# Altium footprint library Connector_JST.PcbLib: 558 footprints (part 3 of 35)
Each footprint in its own frame and in the unit in brackets; x right, y up, seen from the top. Pads: shape width x height; smd on the part's side, far side on the other; paste and mask are expansions set on the pad; w line width, h text height; cw(c..) or ccw(c..) is an arc to the next point about the centre after c.
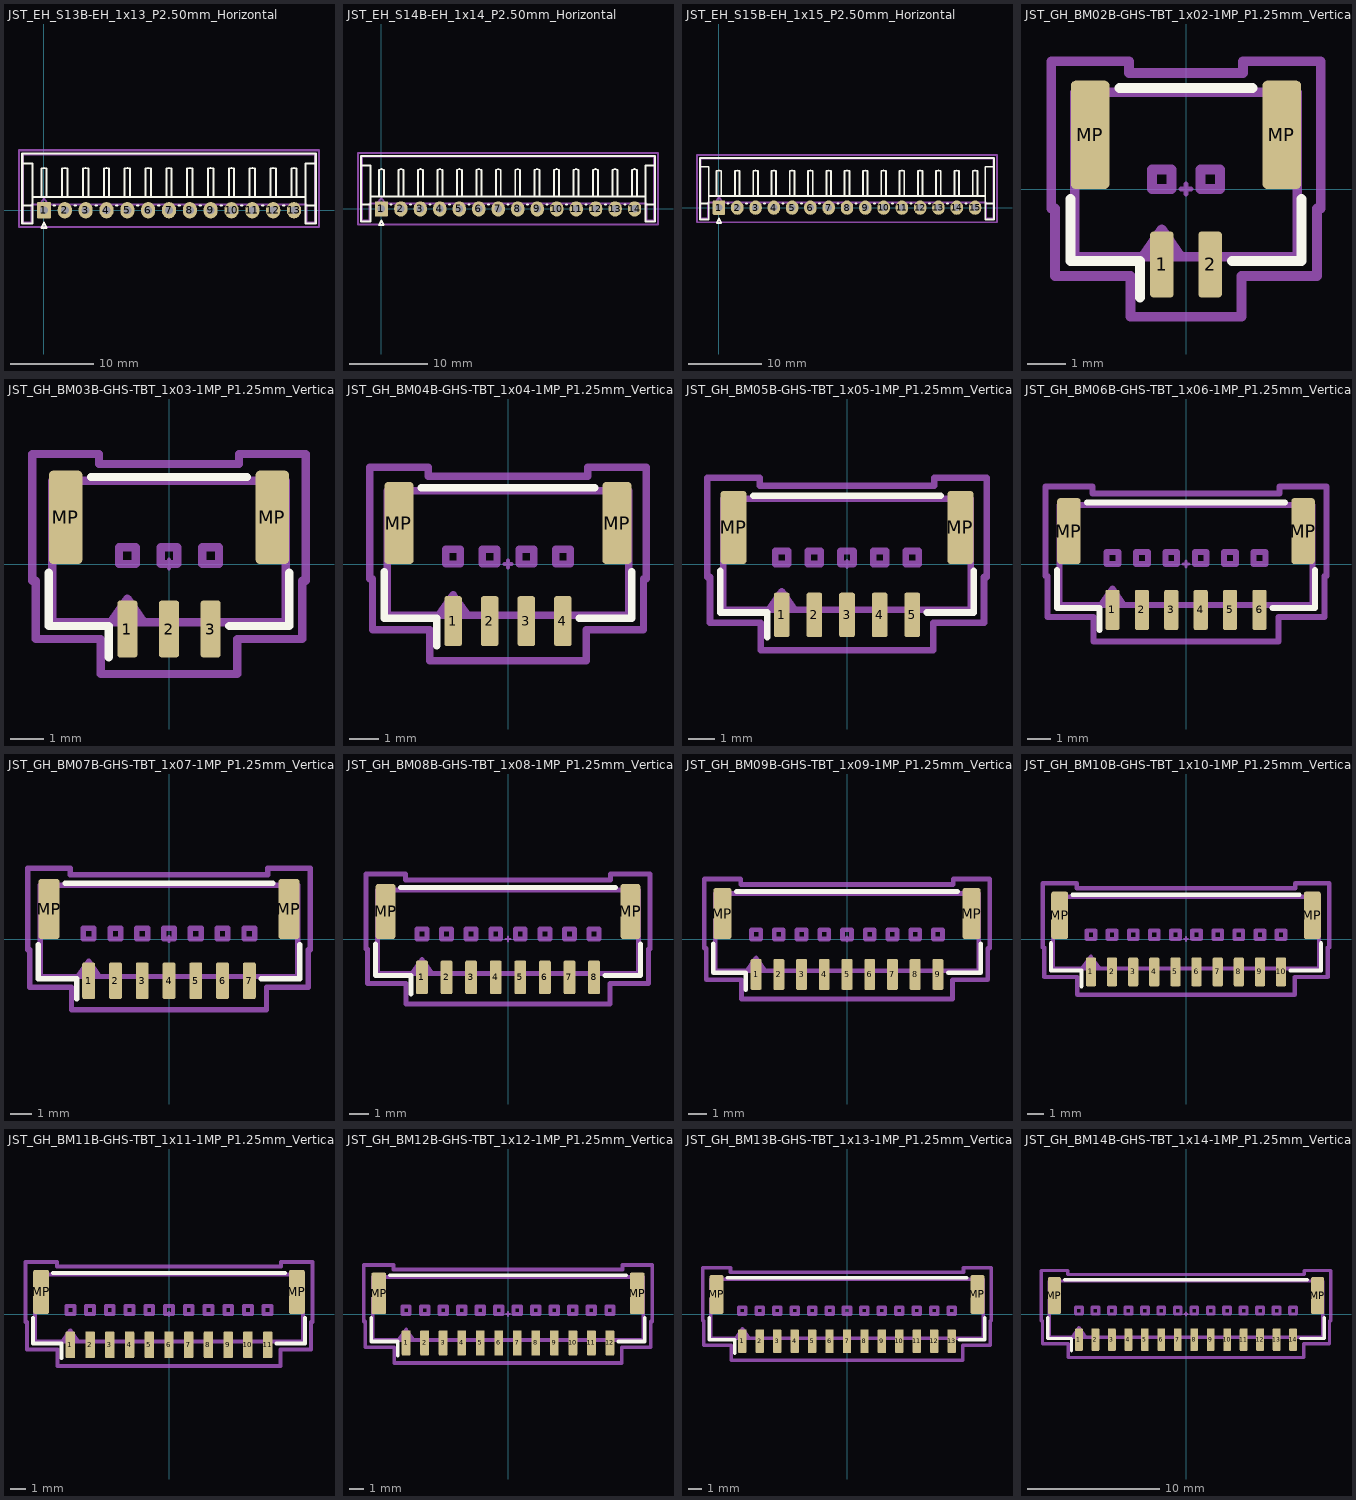
[diagram p2: the footprints below, top view; thin cyan lines are the x and y axes]

## JST_EH_S13B-EH_1x13_P2.50mm_Horizontal [mm] "JST_EH_S13B-EH_1x13_P2.50mm_Horizontal"
pads (13):
  rrect15% 1.7x1.95 hole 0.95: 1(0,0)
  rrect100% 1.7x1.95 hole 0.95: 2(2.5,0) 3(5,0) 4(7.5,0) 5(10,0) 6(12.5,0) 7(15,0) 8(17.5,0) 9(20,0) 10(22.5,0) 11(25,0) 12(27.5,0) 13(30,0)
F.SilkS:
  lines w0.254: -2.61,0.59 -1.39,0.59 ; -2.61,5.59 -1.39,5.59 -1.39,0.59 ; -1.39,1.59 31.39,1.59 ; 1.17,0.59 1.33,0.59 ; 3.67,0.59 3.83,0.59 ; 6.17,0.59 6.33,0.59 ; 8.67,0.59 8.83,0.59 ; 11.17,0.59 11.33,0.59 ; 13.67,0.59 13.83,0.59 ; 16.17,0.59 16.33,0.59 ; 18.67,0.59 18.83,0.59 ; 21.17,0.59 21.33,0.59 ; 23.67,0.59 23.83,0.59 ; 26.17,0.59 26.33,0.59 ; 28.67,0.59 28.83,0.59 ; 32.61,0.59 31.39,0.59 ; 32.61,5.59 31.39,5.59 31.39,0.59 ; -1.39,0.59 -1.39,-1.61 -2.61,-1.61 -2.61,6.81 32.61,6.81 32.61,-1.61 31.39,-1.61 31.39,0.59 ; -0.32,1.59 -0.32,5.01 0,5.09 0.32,5.01 0.32,1.59 0,1.59 -0.32,1.59 ; -0.3,-2.1 0.3,-2.1 0,-1.5 -0.3,-2.1 ; 2.18,1.59 2.18,5.01 2.5,5.09 2.82,5.01 2.82,1.59 2.5,1.59 2.18,1.59 ; 4.68,1.59 4.68,5.01 5,5.09 5.32,5.01 5.32,1.59 5,1.59 4.68,1.59 ; 7.18,1.59 7.18,5.01 7.5,5.09 7.82,5.01 7.82,1.59 7.5,1.59 7.18,1.59 ; 9.68,1.59 9.68,5.01 10,5.09 10.32,5.01 10.32,1.59 10,1.59 9.68,1.59 ; 12.18,1.59 12.18,5.01 12.5,5.09 12.82,5.01 12.82,1.59 12.5,1.59 12.18,1.59 ; 14.68,1.59 14.68,5.01 15,5.09 15.32,5.01 15.32,1.59 15,1.59 14.68,1.59 ; 17.18,1.59 17.18,5.01 17.5,5.09 17.82,5.01 17.82,1.59 17.5,1.59 17.18,1.59 ; 19.68,1.59 19.68,5.01 20,5.09 20.32,5.01 20.32,1.59 20,1.59 19.68,1.59 ; 22.18,1.59 22.18,5.01 22.5,5.09 22.82,5.01 22.82,1.59 22.5,1.59 22.18,1.59 ; 24.68,1.59 24.68,5.01 25,5.09 25.32,5.01 25.32,1.59 25,1.59 24.68,1.59 ; 27.18,1.59 27.18,5.01 27.5,5.09 27.82,5.01 27.82,1.59 27.5,1.59 27.18,1.59 ; 29.68,1.59 29.68,5.01 30,5.09 30.32,5.01 30.32,1.59 30,1.59 29.68,1.59
Top Component Center:
  lines w0.127: -0.127,0 0.127,0 ; 0,-0.127 0,0.127
Top Assembly:
  lines w0.254: -0.5,0.7 0,1.407 0.5,0.7 ; -2.5,-1.5 -2.5,6.7 32.5,6.7 32.5,-1.5 31.5,-1.5 31.5,0.7 -1.5,0.7 -1.5,-1.5 -2.5,-1.5
Top Courtyard:
  lines w0.254: -3,-2 -3,7.2 33,7.2 33,-2 -3,-2
Top Designator:
  text ".Designator" at 11.302,5.498 h1.52
3D body "JST_EH_S13B-EH_1x13_P2.50mm_Horizontal.step": height 4.2, standoff -3.2, extent -2.5,-1.5 32.5,6.7

## JST_EH_S14B-EH_1x14_P2.50mm_Horizontal [mm] "JST_EH_S14B-EH_1x14_P2.50mm_Horizontal"
pads (14):
  rrect15% 1.7x1.95 hole 0.95: 1(0,0)
  rrect100% 1.7x1.95 hole 0.95: 2(2.5,0) 3(5,0) 4(7.5,0) 5(10,0) 6(12.5,0) 7(15,0) 8(17.5,0) 9(20,0) 10(22.5,0) 11(25,0) 12(27.5,0) 13(30,0) 14(32.5,0)
F.SilkS:
  lines w0.254: -2.61,0.59 -1.39,0.59 ; -2.61,5.59 -1.39,5.59 -1.39,0.59 ; -1.39,1.59 33.89,1.59 ; 1.17,0.59 1.33,0.59 ; 3.67,0.59 3.83,0.59 ; 6.17,0.59 6.33,0.59 ; 8.67,0.59 8.83,0.59 ; 11.17,0.59 11.33,0.59 ; 13.67,0.59 13.83,0.59 ; 16.17,0.59 16.33,0.59 ; 18.67,0.59 18.83,0.59 ; 21.17,0.59 21.33,0.59 ; 23.67,0.59 23.83,0.59 ; 26.17,0.59 26.33,0.59 ; 28.67,0.59 28.83,0.59 ; 31.17,0.59 31.33,0.59 ; 35.11,0.59 33.89,0.59 ; 35.11,5.59 33.89,5.59 33.89,0.59 ; -1.39,0.59 -1.39,-1.61 -2.61,-1.61 -2.61,6.81 35.11,6.81 35.11,-1.61 33.89,-1.61 33.89,0.59 ; -0.32,1.59 0,1.59 0.32,1.59 0.32,5.01 0,5.09 -0.32,5.01 -0.32,1.59 ; -0.3,-2.1 0,-1.5 0.3,-2.1 -0.3,-2.1 ; 2.18,1.59 2.5,1.59 2.82,1.59 2.82,5.01 2.5,5.09 2.18,5.01 2.18,1.59 ; 4.68,1.59 5,1.59 5.32,1.59 5.32,5.01 5,5.09 4.68,5.01 4.68,1.59 ; 7.18,1.59 7.5,1.59 7.82,1.59 7.82,5.01 7.5,5.09 7.18,5.01 7.18,1.59 ; 9.68,1.59 10,1.59 10.32,1.59 10.32,5.01 10,5.09 9.68,5.01 9.68,1.59 ; 12.18,1.59 12.5,1.59 12.82,1.59 12.82,5.01 12.5,5.09 12.18,5.01 12.18,1.59 ; 14.68,1.59 15,1.59 15.32,1.59 15.32,5.01 15,5.09 14.68,5.01 14.68,1.59 ; 17.18,1.59 17.5,1.59 17.82,1.59 17.82,5.01 17.5,5.09 17.18,5.01 17.18,1.59 ; 19.68,1.59 20,1.59 20.32,1.59 20.32,5.01 20,5.09 19.68,5.01 19.68,1.59 ; 22.18,1.59 22.5,1.59 22.82,1.59 22.82,5.01 22.5,5.09 22.18,5.01 22.18,1.59 ; 24.68,1.59 25,1.59 25.32,1.59 25.32,5.01 25,5.09 24.68,5.01 24.68,1.59 ; 27.18,1.59 27.5,1.59 27.82,1.59 27.82,5.01 27.5,5.09 27.18,5.01 27.18,1.59 ; 29.68,1.59 30,1.59 30.32,1.59 30.32,5.01 30,5.09 29.68,5.01 29.68,1.59 ; 32.18,1.59 32.5,1.59 32.82,1.59 32.82,5.01 32.5,5.09 32.18,5.01 32.18,1.59
Top Component Center:
  lines w0.127: -0.127,0 0.127,0 ; 0,-0.127 0,0.127
Top Assembly:
  lines w0.254: -0.5,0.7 0,1.407 0.5,0.7 ; -2.5,-1.5 -1.5,-1.5 -1.5,0.7 34,0.7 34,-1.5 35,-1.5 35,6.7 -2.5,6.7 -2.5,-1.5
Top Courtyard:
  lines w0.254: -3,-2 35.5,-2 35.5,7.2 -3,7.2 -3,-2
Top Designator:
  text ".Designator" at 12.572,5.498 h1.52
3D body "JST_EH_S14B-EH_1x14_P2.50mm_Horizontal.step": height 4.2, standoff -3.2, extent -2.5,-1.5 35,6.7

## JST_EH_S15B-EH_1x15_P2.50mm_Horizontal [mm] "JST_EH_S15B-EH_1x15_P2.50mm_Horizontal"
pads (15):
  rrect15% 1.7x1.95 hole 0.95: 1(0,0)
  rrect100% 1.7x1.95 hole 0.95: 2(2.5,0) 3(5,0) 4(7.5,0) 5(10,0) 6(12.5,0) 7(15,0) 8(17.5,0) 9(20,0) 10(22.5,0) 11(25,0) 12(27.5,0) 13(30,0) 14(32.5,0) 15(35,0)
F.SilkS:
  lines w0.254: -2.61,0.59 -1.39,0.59 ; -2.61,5.59 -1.39,5.59 -1.39,0.59 ; -1.39,1.59 36.39,1.59 ; 1.17,0.59 1.33,0.59 ; 3.67,0.59 3.83,0.59 ; 6.17,0.59 6.33,0.59 ; 8.67,0.59 8.83,0.59 ; 11.17,0.59 11.33,0.59 ; 13.67,0.59 13.83,0.59 ; 16.17,0.59 16.33,0.59 ; 18.67,0.59 18.83,0.59 ; 21.17,0.59 21.33,0.59 ; 23.67,0.59 23.83,0.59 ; 26.17,0.59 26.33,0.59 ; 28.67,0.59 28.83,0.59 ; 31.17,0.59 31.33,0.59 ; 33.67,0.59 33.83,0.59 ; 37.61,0.59 36.39,0.59 ; 37.61,5.59 36.39,5.59 36.39,0.59 ; -1.39,0.59 -1.39,-1.61 -2.61,-1.61 -2.61,6.81 37.61,6.81 37.61,-1.61 36.39,-1.61 36.39,0.59 ; -0.32,1.59 -0.32,5.01 0,5.09 0.32,5.01 0.32,1.59 0,1.59 -0.32,1.59 ; -0.3,-2.1 0.3,-2.1 0,-1.5 -0.3,-2.1 ; 2.18,1.59 2.18,5.01 2.5,5.09 2.82,5.01 2.82,1.59 2.5,1.59 2.18,1.59 ; 4.68,1.59 4.68,5.01 5,5.09 5.32,5.01 5.32,1.59 5,1.59 4.68,1.59 ; 7.18,1.59 7.18,5.01 7.5,5.09 7.82,5.01 7.82,1.59 7.5,1.59 7.18,1.59 ; 9.68,1.59 9.68,5.01 10,5.09 10.32,5.01 10.32,1.59 10,1.59 9.68,1.59 ; 12.18,1.59 12.18,5.01 12.5,5.09 12.82,5.01 12.82,1.59 12.5,1.59 12.18,1.59 ; 14.68,1.59 14.68,5.01 15,5.09 15.32,5.01 15.32,1.59 15,1.59 14.68,1.59 ; 17.18,1.59 17.18,5.01 17.5,5.09 17.82,5.01 17.82,1.59 17.5,1.59 17.18,1.59 ; 19.68,1.59 19.68,5.01 20,5.09 20.32,5.01 20.32,1.59 20,1.59 19.68,1.59 ; 22.18,1.59 22.18,5.01 22.5,5.09 22.82,5.01 22.82,1.59 22.5,1.59 22.18,1.59 ; 24.68,1.59 24.68,5.01 25,5.09 25.32,5.01 25.32,1.59 25,1.59 24.68,1.59 ; 27.18,1.59 27.18,5.01 27.5,5.09 27.82,5.01 27.82,1.59 27.5,1.59 27.18,1.59 ; 29.68,1.59 29.68,5.01 30,5.09 30.32,5.01 30.32,1.59 30,1.59 29.68,1.59 ; 32.18,1.59 32.18,5.01 32.5,5.09 32.82,5.01 32.82,1.59 32.5,1.59 32.18,1.59 ; 34.68,1.59 34.68,5.01 35,5.09 35.32,5.01 35.32,1.59 35,1.59 34.68,1.59
Top Component Center:
  lines w0.127: -0.127,0 0.127,0 ; 0,-0.127 0,0.127
Top Assembly:
  lines w0.254: -0.5,0.7 0,1.407 0.5,0.7 ; -2.5,-1.5 -2.5,6.7 37.5,6.7 37.5,-1.5 36.5,-1.5 36.5,0.7 -1.5,0.7 -1.5,-1.5 -2.5,-1.5
Top Courtyard:
  lines w0.254: -3,-2 -3,7.2 38,7.2 38,-2 -3,-2
Top Designator:
  text ".Designator" at 12.953,5.625 h1.52
3D body "JST_EH_S15B-EH_1x15_P2.50mm_Horizontal.step": height 4.2, standoff -3.2, extent -2.5,-1.5 37.5,6.7

## JST_GH_BM02B-GHS-TBT_1x02-1MP_P1.25mm_Vertical [mm] "JST_GH_BM02B-GHS-TBT_1x02-1MP_P1.25mm_Vertical"
pads (4):
  rrect25% 0.6x1.7 smd: 1(-0.625,-1.95) 2(0.625,-1.95)
  rrect25% 1x2.8 smd: MP(-2.475,1.4) MP(2.475,1.4)
F.SilkS:
  lines w0.254: -2.985,-0.26 -2.985,-1.86 -1.185,-1.86 -1.185,-2.8 ; -1.715,2.61 1.715,2.61 ; 1.185,-1.86 2.985,-1.86 2.985,-0.26
Top Component Center:
  lines w0.127: -0.127,0 0.127,0 ; 0,-0.127 0,0.127
Top Assembly:
  lines w0.254: -1.125,-1.75 -0.625,-1.043 -0.125,-1.75 ; -2.875,-1.75 2.875,-1.75 2.875,2.5 -2.875,2.5 -2.875,-1.75 ; -0.875,0 -0.375,0 -0.375,0.5 -0.875,0.5 -0.875,0 ; 0.375,0 0.375,0.5 0.875,0.5 0.875,0 0.375,0
Top Courtyard:
  lines w0.254: -3.48,-0.5 -3.38,-0.5 -3.38,-2.25 -1.43,-2.25 -1.43,-3.3 1.43,-3.3 1.43,-2.25 3.38,-2.25 3.38,-0.5 3.48,-0.5 3.48,3.3 1.47,3.3 1.47,3 -1.47,3 -1.47,3.3 -3.48,3.3 -3.48,-0.5
Top Designator:
  text ".Designator" at -3.43,-0.979 h1.52
3D body "JST_GH_BM02B-GHS-TBT_1x02-1MP_P1.25mm_Vertical.step": height 4.2, standoff 0, extent -2.875,-2.475 2.875,2.475

## JST_GH_BM03B-GHS-TBT_1x03-1MP_P1.25mm_Vertical [mm] "JST_GH_BM03B-GHS-TBT_1x03-1MP_P1.25mm_Vertical"
pads (5):
  rrect25% 0.6x1.7 smd: 1(-1.25,-1.95) 2(0,-1.95) 3(1.25,-1.95)
  rrect25% 1x2.8 smd: MP(-3.1,1.4) MP(3.1,1.4)
F.SilkS:
  lines w0.254: -3.61,-0.26 -3.61,-1.86 -1.81,-1.86 -1.81,-2.8 ; -2.34,2.61 2.34,2.61 ; 1.81,-1.86 3.61,-1.86 3.61,-0.26
Top Component Center:
  lines w0.127: -0.127,0 0.127,0 ; 0,-0.127 0,0.127
Top Assembly:
  lines w0.254: -1.75,-1.75 -1.25,-1.043 -0.75,-1.75 ; -3.5,-1.75 -3.5,2.5 3.5,2.5 3.5,-1.75 -3.5,-1.75 ; -1.5,0 -1.5,0.5 -1,0.5 -1,0 -1.5,0 ; -0.25,0 -0.25,0.5 0.25,0.5 0.25,0 -0.25,0 ; 1,0 1.5,0 1.5,0.5 1,0.5 1,0
Top Courtyard:
  lines w0.254: -4.1,-0.5 -4.1,3.3 -2.1,3.3 -2.1,3 2.1,3 2.1,3.3 4.1,3.3 4.1,-0.5 4,-0.5 4,-2.25 2.05,-2.25 2.05,-3.3 -2.05,-3.3 -2.05,-2.25 -4,-2.25 -4,-0.5 -4.1,-0.5
Top Designator:
  text ".Designator" at -3.303,-0.852 h1.52
3D body "JST_GH_BM03B-GHS-TBT_1x03-1MP_P1.25mm_Vertical.step": height 4.2, standoff 0, extent -3.5,-2.475 3.5,2.475

## JST_GH_BM04B-GHS-TBT_1x04-1MP_P1.25mm_Vertical [mm] "JST_GH_BM04B-GHS-TBT_1x04-1MP_P1.25mm_Vertical"
pads (6):
  rrect25% 0.6x1.7 smd: 1(-1.875,-1.95) 2(-0.625,-1.95) 3(0.625,-1.95) 4(1.875,-1.95)
  rrect25% 1x2.8 smd: MP(-3.725,1.4) MP(3.725,1.4)
F.SilkS:
  lines w0.254: -4.235,-0.26 -4.235,-1.86 -2.435,-1.86 -2.435,-2.8 ; -2.965,2.61 2.965,2.61 ; 2.435,-1.86 4.235,-1.86 4.235,-0.26
Top Component Center:
  lines w0.127: -0.127,0 0.127,0 ; 0,-0.127 0,0.127
Top Assembly:
  lines w0.254: -2.375,-1.75 -1.875,-1.043 -1.375,-1.75 ; -4.125,-1.75 4.125,-1.75 4.125,2.5 -4.125,2.5 -4.125,-1.75 ; -2.125,0 -1.625,0 -1.625,0.5 -2.125,0.5 -2.125,0 ; -0.875,0 -0.375,0 -0.375,0.5 -0.875,0.5 -0.875,0 ; 0.375,0 0.875,0 0.875,0.5 0.375,0.5 0.375,0 ; 1.625,0 2.125,0 2.125,0.5 1.625,0.5 1.625,0
Top Courtyard:
  lines w0.254: -4.73,-0.5 -4.63,-0.5 -4.63,-2.25 -2.68,-2.25 -2.68,-3.3 2.68,-3.3 2.68,-2.25 4.63,-2.25 4.63,-0.5 4.73,-0.5 4.73,3.3 2.72,3.3 2.72,3 -2.72,3 -2.72,3.3 -4.73,3.3 -4.73,-0.5
Top Designator:
  text ".Designator" at -3.43,-0.344 h1.52
3D body "JST_GH_BM04B-GHS-TBT_1x04-1MP_P1.25mm_Vertical.step": height 4.2, standoff 0, extent -4.125,-2.475 4.125,2.475

## JST_GH_BM05B-GHS-TBT_1x05-1MP_P1.25mm_Vertical [mm] "JST_GH_BM05B-GHS-TBT_1x05-1MP_P1.25mm_Vertical"
pads (7):
  rrect25% 0.6x1.7 smd: 1(-2.5,-1.95) 2(-1.25,-1.95) 3(0,-1.95) 4(1.25,-1.95) 5(2.5,-1.95)
  rrect25% 1x2.8 smd: MP(-4.35,1.4) MP(4.35,1.4)
F.SilkS:
  lines w0.254: -4.86,-0.26 -4.86,-1.86 -3.06,-1.86 -3.06,-2.8 ; -3.59,2.61 3.59,2.61 ; 3.06,-1.86 4.86,-1.86 4.86,-0.26
Top Component Center:
  lines w0.127: -0.127,0 0.127,0 ; 0,-0.127 0,0.127
Top Assembly:
  lines w0.254: -3,-1.75 -2.5,-1.043 -2,-1.75 ; -4.75,-1.75 4.75,-1.75 4.75,2.5 -4.75,2.5 -4.75,-1.75 ; -2.75,0 -2.25,0 -2.25,0.5 -2.75,0.5 -2.75,0 ; -1.5,0 -1,0 -1,0.5 -1.5,0.5 -1.5,0 ; -0.25,0 0.25,0 0.25,0.5 -0.25,0.5 -0.25,0 ; 1,0 1.5,0 1.5,0.5 1,0.5 1,0 ; 2.25,0 2.75,0 2.75,0.5 2.25,0.5 2.25,0
Top Courtyard:
  lines w0.254: -5.35,-0.5 -5.25,-0.5 -5.25,-2.25 -3.3,-2.25 -3.3,-3.3 3.3,-3.3 3.3,-2.25 5.25,-2.25 5.25,-0.5 5.35,-0.5 5.35,3.3 3.34,3.3 3.34,3 -3.34,3 -3.34,3.3 -5.35,3.3 -5.35,-0.5
Top Designator:
  text ".Designator" at -3.43,1.053 h1.52
3D body "JST_GH_BM05B-GHS-TBT_1x05-1MP_P1.25mm_Vertical.step": height 4.2, standoff 0, extent -4.75,-2.475 4.75,2.475

## JST_GH_BM06B-GHS-TBT_1x06-1MP_P1.25mm_Vertical [mm] "JST_GH_BM06B-GHS-TBT_1x06-1MP_P1.25mm_Vertical"
pads (8):
  rrect25% 0.6x1.7 smd: 1(-3.125,-1.95) 2(-1.875,-1.95) 3(-0.625,-1.95) 4(0.625,-1.95) 5(1.875,-1.95) 6(3.125,-1.95)
  rrect25% 1x2.8 smd: MP(-4.975,1.4) MP(4.975,1.4)
F.SilkS:
  lines w0.254: -5.485,-0.26 -5.485,-1.86 -3.685,-1.86 -3.685,-2.8 ; -4.215,2.61 4.215,2.61 ; 3.685,-1.86 5.485,-1.86 5.485,-0.26
Top Component Center:
  lines w0.127: -0.127,0 0.127,0 ; 0,-0.127 0,0.127
Top Assembly:
  lines w0.254: -3.625,-1.75 -3.125,-1.043 -2.625,-1.75 ; -5.375,-1.75 5.375,-1.75 5.375,2.5 -5.375,2.5 -5.375,-1.75 ; -3.375,0 -2.875,0 -2.875,0.5 -3.375,0.5 -3.375,0 ; -2.125,0 -1.625,0 -1.625,0.5 -2.125,0.5 -2.125,0 ; -0.875,0 -0.375,0 -0.375,0.5 -0.875,0.5 -0.875,0 ; 0.375,0 0.875,0 0.875,0.5 0.375,0.5 0.375,0 ; 1.625,0 2.125,0 2.125,0.5 1.625,0.5 1.625,0 ; 2.875,0 3.375,0 3.375,0.5 2.875,0.5 2.875,0
Top Courtyard:
  lines w0.254: -5.98,-0.5 -5.88,-0.5 -5.88,-2.25 -3.93,-2.25 -3.93,-3.3 3.93,-3.3 3.93,-2.25 5.88,-2.25 5.88,-0.5 5.98,-0.5 5.98,3.3 3.97,3.3 3.97,3 -3.97,3 -3.97,3.3 -5.98,3.3 -5.98,-0.5
Top Designator:
  text ".Designator" at -3.303,1.18 h1.52
3D body "JST_GH_BM06B-GHS-TBT_1x06-1MP_P1.25mm_Vertical.step": height 4.2, standoff 0, extent -5.375,-2.475 5.375,2.475

## JST_GH_BM07B-GHS-TBT_1x07-1MP_P1.25mm_Vertical [mm] "JST_GH_BM07B-GHS-TBT_1x07-1MP_P1.25mm_Vertical"
pads (9):
  rrect25% 0.6x1.7 smd: 1(-3.75,-1.95) 2(-2.5,-1.95) 3(-1.25,-1.95) 4(0,-1.95) 5(1.25,-1.95) 6(2.5,-1.95) 7(3.75,-1.95)
  rrect25% 1x2.8 smd: MP(-5.6,1.4) MP(5.6,1.4)
F.SilkS:
  lines w0.254: -6.11,-0.26 -6.11,-1.86 -4.31,-1.86 -4.31,-2.8 ; -4.84,2.61 4.84,2.61 ; 4.31,-1.86 6.11,-1.86 6.11,-0.26
Top Component Center:
  lines w0.127: -0.127,0 0.127,0 ; 0,-0.127 0,0.127
Top Assembly:
  lines w0.254: -4.25,-1.75 -3.75,-1.043 -3.25,-1.75 ; -6,-1.75 6,-1.75 6,2.5 -6,2.5 -6,-1.75 ; -4,0 -3.5,0 -3.5,0.5 -4,0.5 -4,0 ; -2.75,0 -2.25,0 -2.25,0.5 -2.75,0.5 -2.75,0 ; -1.5,0 -1,0 -1,0.5 -1.5,0.5 -1.5,0 ; -0.25,0 0.25,0 0.25,0.5 -0.25,0.5 -0.25,0 ; 1,0 1.5,0 1.5,0.5 1,0.5 1,0 ; 2.25,0 2.75,0 2.75,0.5 2.25,0.5 2.25,0 ; 3.5,0 4,0 4,0.5 3.5,0.5 3.5,0
Top Courtyard:
  lines w0.254: -6.6,-0.5 -6.5,-0.5 -6.5,-2.25 -4.55,-2.25 -4.55,-3.3 4.55,-3.3 4.55,-2.25 6.5,-2.25 6.5,-0.5 6.6,-0.5 6.6,3.3 4.6,3.3 4.6,3 -4.6,3 -4.6,3.3 -6.6,3.3 -6.6,-0.5
Top Designator:
  text ".Designator" at -3.43,1.18 h1.52
3D body "JST_GH_BM07B-GHS-TBT_1x07-1MP_P1.25mm_Vertical.step": height 4.2, standoff 0, extent -6,-2.475 6,2.475

## JST_GH_BM08B-GHS-TBT_1x08-1MP_P1.25mm_Vertical [mm] "JST_GH_BM08B-GHS-TBT_1x08-1MP_P1.25mm_Vertical"
pads (10):
  rrect25% 0.6x1.7 smd: 1(-4.375,-1.95) 2(-3.125,-1.95) 3(-1.875,-1.95) 4(-0.625,-1.95) 5(0.625,-1.95) 6(1.875,-1.95) 7(3.125,-1.95) 8(4.375,-1.95)
  rrect25% 1x2.8 smd: MP(-6.225,1.4) MP(6.225,1.4)
F.SilkS:
  lines w0.254: -6.735,-0.26 -6.735,-1.86 -4.935,-1.86 -4.935,-2.8 ; -5.465,2.61 5.465,2.61 ; 4.935,-1.86 6.735,-1.86 6.735,-0.26
Top Component Center:
  lines w0.127: -0.127,0 0.127,0 ; 0,-0.127 0,0.127
Top Assembly:
  lines w0.254: -4.875,-1.75 -4.375,-1.043 -3.875,-1.75 ; -6.625,-1.75 6.625,-1.75 6.625,2.5 -6.625,2.5 -6.625,-1.75 ; -4.625,0 -4.125,0 -4.125,0.5 -4.625,0.5 -4.625,0 ; -3.375,0 -2.875,0 -2.875,0.5 -3.375,0.5 -3.375,0 ; -2.125,0 -1.625,0 -1.625,0.5 -2.125,0.5 -2.125,0 ; -0.875,0 -0.375,0 -0.375,0.5 -0.875,0.5 -0.875,0 ; 0.375,0 0.875,0 0.875,0.5 0.375,0.5 0.375,0 ; 1.625,0 2.125,0 2.125,0.5 1.625,0.5 1.625,0 ; 2.875,0 3.375,0 3.375,0.5 2.875,0.5 2.875,0 ; 4.125,0 4.625,0 4.625,0.5 4.125,0.5 4.125,0
Top Courtyard:
  lines w0.254: -7.23,-0.5 -7.13,-0.5 -7.13,-2.25 -5.18,-2.25 -5.18,-3.3 5.18,-3.3 5.18,-2.25 7.13,-2.25 7.13,-0.5 7.23,-0.5 7.23,3.3 5.22,3.3 5.22,3 -5.22,3 -5.22,3.3 -7.23,3.3 -7.23,-0.5
Top Designator:
  text ".Designator" at -3.43,1.053 h1.52
3D body "JST_GH_BM08B-GHS-TBT_1x08-1MP_P1.25mm_Vertical.step": height 4.2, standoff 0, extent -6.625,-2.475 6.625,2.475

## JST_GH_BM09B-GHS-TBT_1x09-1MP_P1.25mm_Vertical [mm] "JST_GH_BM09B-GHS-TBT_1x09-1MP_P1.25mm_Vertical"
pads (11):
  rrect25% 0.6x1.7 smd: 1(-5,-1.95) 2(-3.75,-1.95) 3(-2.5,-1.95) 4(-1.25,-1.95) 5(0,-1.95) 6(1.25,-1.95) 7(2.5,-1.95) 8(3.75,-1.95) 9(5,-1.95)
  rrect25% 1x2.8 smd: MP(-6.85,1.4) MP(6.85,1.4)
F.SilkS:
  lines w0.254: -7.36,-0.26 -7.36,-1.86 -5.56,-1.86 -5.56,-2.8 ; -6.09,2.61 6.09,2.61 ; 5.56,-1.86 7.36,-1.86 7.36,-0.26
Top Component Center:
  lines w0.127: -0.127,0 0.127,0 ; 0,-0.127 0,0.127
Top Assembly:
  lines w0.254: -5.5,-1.75 -5,-1.043 -4.5,-1.75 ; -7.25,-1.75 -7.25,2.5 7.25,2.5 7.25,-1.75 -7.25,-1.75 ; -5.25,0 -5.25,0.5 -4.75,0.5 -4.75,0 -5.25,0 ; -4,0 -4,0.5 -3.5,0.5 -3.5,0 -4,0 ; -2.75,0 -2.75,0.5 -2.25,0.5 -2.25,0 -2.75,0 ; -1.5,0 -1.5,0.5 -1,0.5 -1,0 -1.5,0 ; -0.25,0 -0.25,0.5 0.25,0.5 0.25,0 -0.25,0 ; 1,0 1,0.5 1.5,0.5 1.5,0 1,0 ; 2.25,0 2.25,0.5 2.75,0.5 2.75,0 2.25,0 ; 3.5,0 3.5,0.5 4,0.5 4,0 3.5,0 ; 4.75,0 4.75,0.5 5.25,0.5 5.25,0 4.75,0
Top Courtyard:
  lines w0.254: -7.85,-0.5 -7.85,3.3 -5.85,3.3 -5.85,3 5.85,3 5.85,3.3 7.85,3.3 7.85,-0.5 7.75,-0.5 7.75,-2.25 5.8,-2.25 5.8,-3.3 -5.8,-3.3 -5.8,-2.25 -7.75,-2.25 -7.75,-0.5 -7.85,-0.5
Top Designator:
  text ".Designator" at -3.303,1.053 h1.52
3D body "JST_GH_BM09B-GHS-TBT_1x09-1MP_P1.25mm_Vertical.step": height 4.2, standoff 0, extent -7.25,-2.475 7.25,2.475

## JST_GH_BM10B-GHS-TBT_1x10-1MP_P1.25mm_Vertical [mm] "JST_GH_BM10B-GHS-TBT_1x10-1MP_P1.25mm_Vertical"
pads (12):
  rrect25% 0.6x1.7 smd: 1(-5.625,-1.95) 2(-4.375,-1.95) 3(-3.125,-1.95) 4(-1.875,-1.95) 5(-0.625,-1.95) 6(0.625,-1.95) 7(1.875,-1.95) 8(3.125,-1.95) 9(4.375,-1.95) 10(5.625,-1.95)
  rrect25% 1x2.8 smd: MP(-7.475,1.4) MP(7.475,1.4)
F.SilkS:
  lines w0.254: -7.985,-0.26 -7.985,-1.86 -6.185,-1.86 -6.185,-2.8 ; -6.715,2.61 6.715,2.61 ; 6.185,-1.86 7.985,-1.86 7.985,-0.26
Top Component Center:
  lines w0.127: -0.127,0 0.127,0 ; 0,-0.127 0,0.127
Top Assembly:
  lines w0.254: -6.125,-1.75 -5.625,-1.043 -5.125,-1.75 ; -7.875,-1.75 -7.875,2.5 7.875,2.5 7.875,-1.75 -7.875,-1.75 ; -5.875,0 -5.875,0.5 -5.375,0.5 -5.375,0 -5.875,0 ; -4.625,0 -4.625,0.5 -4.125,0.5 -4.125,0 -4.625,0 ; -3.375,0 -3.375,0.5 -2.875,0.5 -2.875,0 -3.375,0 ; -2.125,0 -2.125,0.5 -1.625,0.5 -1.625,0 -2.125,0 ; -0.875,0 -0.875,0.5 -0.375,0.5 -0.375,0 -0.875,0 ; 0.375,0 0.375,0.5 0.875,0.5 0.875,0 0.375,0 ; 1.625,0 1.625,0.5 2.125,0.5 2.125,0 1.625,0 ; 2.875,0 2.875,0.5 3.375,0.5 3.375,0 2.875,0 ; 4.125,0 4.125,0.5 4.625,0.5 4.625,0 4.125,0 ; 5.375,0 5.375,0.5 5.875,0.5 5.875,0 5.375,0
Top Courtyard:
  lines w0.254: -8.48,-0.5 -8.48,3.3 -6.47,3.3 -6.47,3 6.47,3 6.47,3.3 8.48,3.3 8.48,-0.5 8.38,-0.5 8.38,-2.25 6.43,-2.25 6.43,-3.3 -6.43,-3.3 -6.43,-2.25 -8.38,-2.25 -8.38,-0.5 -8.48,-0.5
Top Designator:
  text ".Designator" at -3.43,1.18 h1.52
3D body "JST_GH_BM10B-GHS-TBT_1x10-1MP_P1.25mm_Vertical.step": height 4.2, standoff 0, extent -7.875,-2.475 7.875,2.475

## JST_GH_BM11B-GHS-TBT_1x11-1MP_P1.25mm_Vertical [mm] "JST_GH_BM11B-GHS-TBT_1x11-1MP_P1.25mm_Vertical"
pads (13):
  rrect25% 0.6x1.7 smd: 1(-6.25,-1.95) 2(-5,-1.95) 3(-3.75,-1.95) 4(-2.5,-1.95) 5(-1.25,-1.95) 6(0,-1.95) 7(1.25,-1.95) 8(2.5,-1.95) 9(3.75,-1.95) 10(5,-1.95) 11(6.25,-1.95)
  rrect25% 1x2.8 smd: MP(-8.1,1.4) MP(8.1,1.4)
F.SilkS:
  lines w0.254: -8.61,-0.26 -8.61,-1.86 -6.81,-1.86 -6.81,-2.8 ; -7.34,2.61 7.34,2.61 ; 6.81,-1.86 8.61,-1.86 8.61,-0.26
Top Component Center:
  lines w0.127: -0.127,0 0.127,0 ; 0,-0.127 0,0.127
Top Assembly:
  lines w0.254: -6.75,-1.75 -6.25,-1.043 -5.75,-1.75 ; -8.5,-1.75 -8.5,2.5 8.5,2.5 8.5,-1.75 -8.5,-1.75 ; -6.5,0 -6.5,0.5 -6,0.5 -6,0 -6.5,0 ; -5.25,0 -5.25,0.5 -4.75,0.5 -4.75,0 -5.25,0 ; -4,0 -4,0.5 -3.5,0.5 -3.5,0 -4,0 ; -2.75,0 -2.75,0.5 -2.25,0.5 -2.25,0 -2.75,0 ; -1.5,0 -1.5,0.5 -1,0.5 -1,0 -1.5,0 ; -0.25,0 -0.25,0.5 0.25,0.5 0.25,0 -0.25,0 ; 1,0 1,0.5 1.5,0.5 1.5,0 1,0 ; 2.25,0 2.25,0.5 2.75,0.5 2.75,0 2.25,0 ; 3.5,0 3.5,0.5 4,0.5 4,0 3.5,0 ; 4.75,0 4.75,0.5 5.25,0.5 5.25,0 4.75,0 ; 6,0 6,0.5 6.5,0.5 6.5,0 6,0
Top Courtyard:
  lines w0.254: -9.1,-0.5 -9.1,3.3 -7.1,3.3 -7.1,3 7.1,3 7.1,3.3 9.1,3.3 9.1,-0.5 9,-0.5 9,-2.25 7.05,-2.25 7.05,-3.3 -7.05,-3.3 -7.05,-2.25 -9,-2.25 -9,-0.5 -9.1,-0.5
Top Designator:
  text ".Designator" at -3.43,1.307 h1.52
3D body "JST_GH_BM11B-GHS-TBT_1x11-1MP_P1.25mm_Vertical.step": height 4.2, standoff 0, extent -8.5,-2.475 8.5,2.475

## JST_GH_BM12B-GHS-TBT_1x12-1MP_P1.25mm_Vertical [mm] "JST_GH_BM12B-GHS-TBT_1x12-1MP_P1.25mm_Vertical"
pads (14):
  rrect25% 0.6x1.7 smd: 1(-6.875,-1.95) 2(-5.625,-1.95) 3(-4.375,-1.95) 4(-3.125,-1.95) 5(-1.875,-1.95) 6(-0.625,-1.95) 7(0.625,-1.95) 8(1.875,-1.95) 9(3.125,-1.95) 10(4.375,-1.95) 11(5.625,-1.95) 12(6.875,-1.95)
  rrect25% 1x2.8 smd: MP(-8.725,1.4) MP(8.725,1.4)
F.SilkS:
  lines w0.254: -9.235,-0.26 -9.235,-1.86 -7.435,-1.86 -7.435,-2.8 ; -7.965,2.61 7.965,2.61 ; 7.435,-1.86 9.235,-1.86 9.235,-0.26
Top Component Center:
  lines w0.127: -0.127,0 0.127,0 ; 0,-0.127 0,0.127
Top Assembly:
  lines w0.254: -7.375,-1.75 -6.875,-1.043 -6.375,-1.75 ; -9.125,-1.75 -9.125,2.5 9.125,2.5 9.125,-1.75 -9.125,-1.75 ; -7.125,0 -7.125,0.5 -6.625,0.5 -6.625,0 -7.125,0 ; -5.875,0 -5.875,0.5 -5.375,0.5 -5.375,0 -5.875,0 ; -4.625,0 -4.625,0.5 -4.125,0.5 -4.125,0 -4.625,0 ; -3.375,0 -3.375,0.5 -2.875,0.5 -2.875,0 -3.375,0 ; -2.125,0 -2.125,0.5 -1.625,0.5 -1.625,0 -2.125,0 ; -0.875,0 -0.875,0.5 -0.375,0.5 -0.375,0 -0.875,0 ; 0.375,0 0.375,0.5 0.875,0.5 0.875,0 0.375,0 ; 1.625,0 1.625,0.5 2.125,0.5 2.125,0 1.625,0 ; 2.875,0 2.875,0.5 3.375,0.5 3.375,0 2.875,0 ; 4.125,0 4.125,0.5 4.625,0.5 4.625,0 4.125,0 ; 5.375,0 5.375,0.5 5.875,0.5 5.875,0 5.375,0 ; 6.625,0 6.625,0.5 7.125,0.5 7.125,0 6.625,0
Top Courtyard:
  lines w0.254: -9.73,-0.5 -9.73,3.3 -7.72,3.3 -7.72,3 7.72,3 7.72,3.3 9.73,3.3 9.73,-0.5 9.63,-0.5 9.63,-2.25 7.68,-2.25 7.68,-3.3 -7.68,-3.3 -7.68,-2.25 -9.63,-2.25 -9.63,-0.5 -9.73,-0.5
Top Designator:
  text ".Designator" at -3.303,1.18 h1.52
3D body "JST_GH_BM12B-GHS-TBT_1x12-1MP_P1.25mm_Vertical.step": height 4.2, standoff 0, extent -9.125,-2.475 9.125,2.475

## JST_GH_BM13B-GHS-TBT_1x13-1MP_P1.25mm_Vertical [mm] "JST_GH_BM13B-GHS-TBT_1x13-1MP_P1.25mm_Vertical"
pads (15):
  rrect25% 0.6x1.7 smd: 1(-7.5,-1.95) 2(-6.25,-1.95) 3(-5,-1.95) 4(-3.75,-1.95) 5(-2.5,-1.95) 6(-1.25,-1.95) 7(0,-1.95) 8(1.25,-1.95) 9(2.5,-1.95) 10(3.75,-1.95) 11(5,-1.95) 12(6.25,-1.95) 13(7.5,-1.95)
  rrect25% 1x2.8 smd: MP(-9.35,1.4) MP(9.35,1.4)
F.SilkS:
  lines w0.254: -9.86,-0.26 -9.86,-1.86 -8.06,-1.86 -8.06,-2.8 ; -8.59,2.61 8.59,2.61 ; 8.06,-1.86 9.86,-1.86 9.86,-0.26
Top Component Center:
  lines w0.127: -0.127,0 0.127,0 ; 0,-0.127 0,0.127
Top Assembly:
  lines w0.254: -8,-1.75 -7.5,-1.043 -7,-1.75 ; -9.75,-1.75 9.75,-1.75 9.75,2.5 -9.75,2.5 -9.75,-1.75 ; -7.75,0 -7.25,0 -7.25,0.5 -7.75,0.5 -7.75,0 ; -6.5,0 -6,0 -6,0.5 -6.5,0.5 -6.5,0 ; -5.25,0 -4.75,0 -4.75,0.5 -5.25,0.5 -5.25,0 ; -4,0 -3.5,0 -3.5,0.5 -4,0.5 -4,0 ; -2.75,0 -2.25,0 -2.25,0.5 -2.75,0.5 -2.75,0 ; -1.5,0 -1,0 -1,0.5 -1.5,0.5 -1.5,0 ; -0.25,0 0.25,0 0.25,0.5 -0.25,0.5 -0.25,0 ; 1,0 1.5,0 1.5,0.5 1,0.5 1,0 ; 2.25,0 2.75,0 2.75,0.5 2.25,0.5 2.25,0 ; 3.5,0 4,0 4,0.5 3.5,0.5 3.5,0 ; 4.75,0 5.25,0 5.25,0.5 4.75,0.5 4.75,0 ; 6,0 6.5,0 6.5,0.5 6,0.5 6,0 ; 7.25,0 7.75,0 7.75,0.5 7.25,0.5 7.25,0
Top Courtyard:
  lines w0.254: -10.35,-0.5 -10.25,-0.5 -10.25,-2.25 -8.3,-2.25 -8.3,-3.3 8.3,-3.3 8.3,-2.25 10.25,-2.25 10.25,-0.5 10.35,-0.5 10.35,3.3 8.35,3.3 8.35,3 -8.35,3 -8.35,3.3 -10.35,3.3 -10.35,-0.5
Top Designator:
  text ".Designator" at -3.43,1.18 h1.52
3D body "JST_GH_BM13B-GHS-TBT_1x13-1MP_P1.25mm_Vertical.step": height 4.2, standoff 0, extent -9.75,-2.475 9.75,2.475

## JST_GH_BM14B-GHS-TBT_1x14-1MP_P1.25mm_Vertical [mm] "JST_GH_BM14B-GHS-TBT_1x14-1MP_P1.25mm_Vertical"
pads (16):
  rrect25% 0.6x1.7 smd: 1(-8.125,-1.95) 2(-6.875,-1.95) 3(-5.625,-1.95) 4(-4.375,-1.95) 5(-3.125,-1.95) 6(-1.875,-1.95) 7(-0.625,-1.95) 8(0.625,-1.95) 9(1.875,-1.95) 10(3.125,-1.95) 11(4.375,-1.95) 12(5.625,-1.95) 13(6.875,-1.95) 14(8.125,-1.95)
  rrect25% 1x2.8 smd: MP(-9.975,1.4) MP(9.975,1.4)
F.SilkS:
  lines w0.254: -10.485,-0.26 -10.485,-1.86 -8.685,-1.86 -8.685,-2.8 ; -9.215,2.61 9.215,2.61 ; 8.685,-1.86 10.485,-1.86 10.485,-0.26
Top Component Center:
  lines w0.127: -0.127,0 0.127,0 ; 0,-0.127 0,0.127
Top Assembly:
  lines w0.254: -8.625,-1.75 -8.125,-1.043 -7.625,-1.75 ; -10.375,-1.75 10.375,-1.75 10.375,2.5 -10.375,2.5 -10.375,-1.75 ; -8.375,0 -7.875,0 -7.875,0.5 -8.375,0.5 -8.375,0 ; -7.125,0 -6.625,0 -6.625,0.5 -7.125,0.5 -7.125,0 ; -5.875,0 -5.375,0 -5.375,0.5 -5.875,0.5 -5.875,0 ; -4.625,0 -4.125,0 -4.125,0.5 -4.625,0.5 -4.625,0 ; -3.375,0 -2.875,0 -2.875,0.5 -3.375,0.5 -3.375,0 ; -2.125,0 -1.625,0 -1.625,0.5 -2.125,0.5 -2.125,0 ; -0.875,0 -0.375,0 -0.375,0.5 -0.875,0.5 -0.875,0 ; 0.375,0 0.875,0 0.875,0.5 0.375,0.5 0.375,0 ; 1.625,0 2.125,0 2.125,0.5 1.625,0.5 1.625,0 ; 2.875,0 3.375,0 3.375,0.5 2.875,0.5 2.875,0 ; 4.125,0 4.625,0 4.625,0.5 4.125,0.5 4.125,0 ; 5.375,0 5.875,0 5.875,0.5 5.375,0.5 5.375,0 ; 6.625,0 7.125,0 7.125,0.5 6.625,0.5 6.625,0 ; 7.875,0 8.375,0 8.375,0.5 7.875,0.5 7.875,0
Top Courtyard:
  lines w0.254: -10.98,-0.5 -10.88,-0.5 -10.88,-2.25 -8.93,-2.25 -8.93,-3.3 8.93,-3.3 8.93,-2.25 10.88,-2.25 10.88,-0.5 10.98,-0.5 10.98,3.3 8.97,3.3 8.97,3 -8.97,3 -8.97,3.3 -10.98,3.3 -10.98,-0.5
Top Designator:
  text ".Designator" at -3.684,1.18 h1.52
3D body "JST_GH_BM14B-GHS-TBT_1x14-1MP_P1.25mm_Vertical.step": height 4.2, standoff 0, extent -10.375,-2.475 10.375,2.475